# EAGLE library part P8216 (library s100)
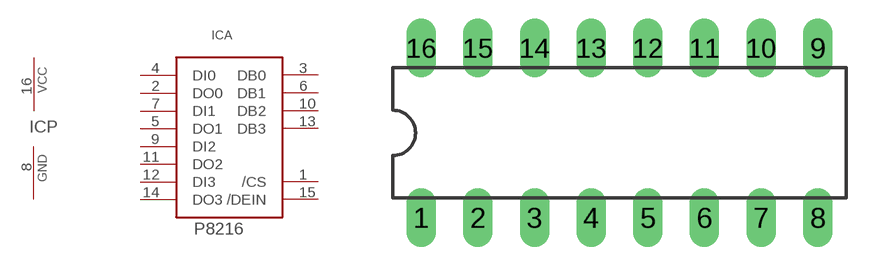
[diagram p1: symbol with the pads of DIL16; footprint DIL16]

Designator prefix IC; gates A=P8216 P=PWRN

## P8216  [DIL16]
1  A:/CS
2  A:DO0
3  A:DB0
4  A:DI0
5  A:DO1
6  A:DB1
7  A:DI1
8  P:GND  pwr
9  A:DI2
10  A:DB2
11  A:DO2
12  A:DI3
13  A:DB3
14  A:DO3
15  A:/DEIN
16  P:VCC  pwr

## Footprint DIL16 (pad centres in mm)
Dual In Line Package
drill 0.813 long: 1 -8.89,-3.81; 2 -6.35,-3.81; 3 -3.81,-3.81; 4 -1.27,-3.81; 5 1.27,-3.81; 6 3.81,-3.81; 7 6.35,-3.81; 8 8.89,-3.81; 9 8.89,3.81; 10 6.35,3.81; 11 3.81,3.81; 12 1.27,3.81; 13 -1.27,3.81; 14 -3.81,3.81; 15 -6.35,3.81; 16 -8.89,3.81